# EAGLE library part IN-2 (library nixies)
Soviet IN-2 Nixie tube.
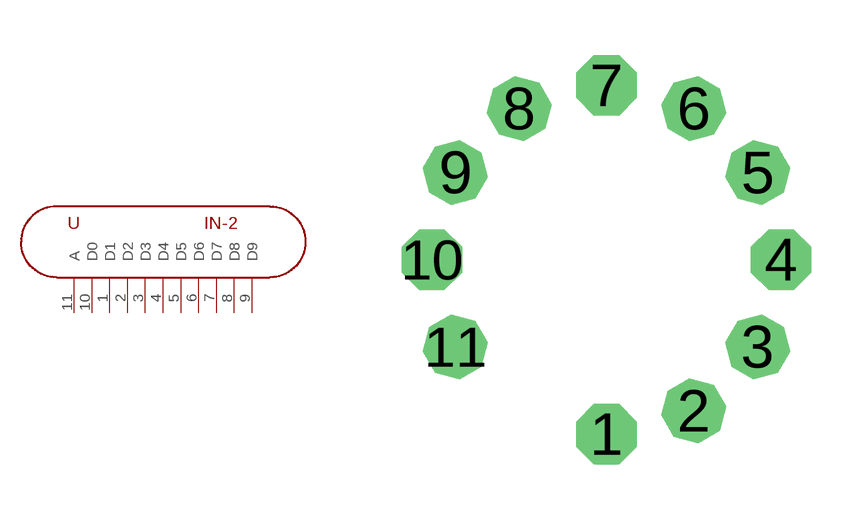
[diagram p1: symbol with the pads of IN-2; footprint IN-2]

Designator prefix -

## IN-2 (VALUE: IN-2)  [IN-2]
1  D1
2  D2
3  D3
4  D4
5  D5
6  D6
7  D7
8  D8
9  D9
10  D0
11  A

## Footprint IN-2 (pad centres in mm)
drill 1.1 octagon: 1 0,-4.75; 2 2.375,-4.114; 3 4.114,-2.375; 4 4.75,0; 5 4.114,2.375; 6 2.375,4.114; 7 0,4.75; 8 -2.375,4.114; 9 -4.114,2.375; 10 -4.75,0; 11 -4.114,-2.375